# Altium footprint library Control_Board_Model_C201.PcbLib: 124 footprints (part 2 of 8)
Each footprint in its own frame and in the unit in brackets; x right, y up, seen from the top. Pads: shape width x height; smd on the part's side, far side on the other; paste and mask are expansions set on the pad; w line width, h text height; cw(c..) or ccw(c..) is an arc to the next point about the centre after c.
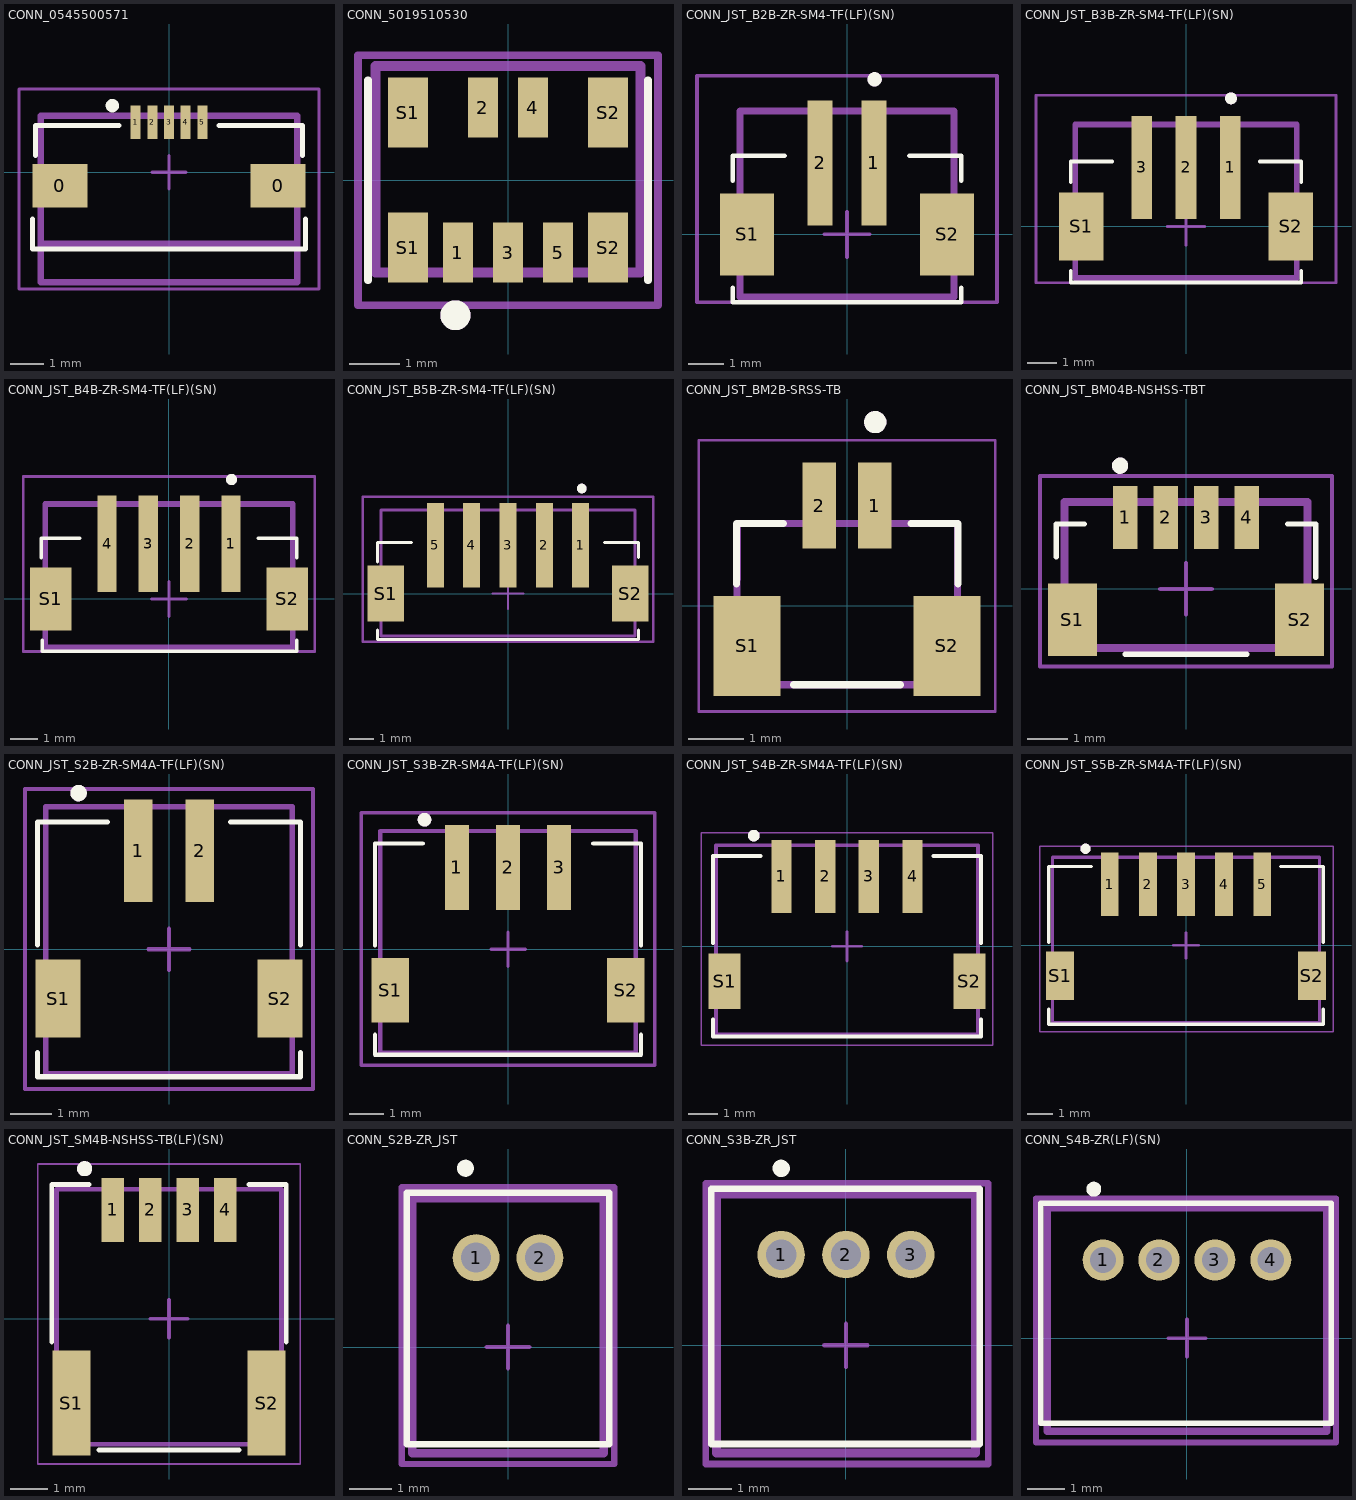
[diagram p1: the footprints below, top view; thin cyan lines are the x and y axes]

## CONN_0545500571 [mm] "5 Position FFC, FPC Connector Contacts, Top 0.020\" (0.50mm) Surface Mount, Right Angle"
height 1.2
pads (7):
  rect 1.65x1.3 smd mask+0.05: 0(-3.275,-0.4) 0(3.275,-0.4)
  rect 0.3x1 smd mask+0.05: 1(-1,1.5) 2(-0.5,1.5) 3(0,1.5) 4(0.5,1.5) 5(1,1.5)
Top Overlay:
  circle w0.2: c-1.7,2 r0.1
  lines w0.152: -4.1,-1.4 -4.1,-2.3 4.1,-2.3 4.1,-1.4 ; -4,0.5 -4,1.4 -1.5,1.4 ; 1.5,1.4 4,1.4 4,0.5
Mechanical 14:
  lines w0.2: -3.85,-2.15 3.85,-2.15 ; -3.85,-3.3 3.85,-3.3 3.85,1.7 -3.85,1.7 -3.85,-3.3
  text "'.Designator'" at -1,-1.5 h0.5
  text "1" at -1.1,0.3 h0.5
  text "5" at 0.9,0.3 h0.5
Mechanical 15:
  lines w0.1: -0.5,0 0.5,0 ; 0,-0.5 0,0.5 ; -4.5,-3.5 -4.5,2.5 4.5,2.5 4.5,-3.5 -4.5,-3.5
3D body "545500571.stp": height 1.2, standoff 0, extent -3.85,-3.3 3.85,1.7

## CONN_5019510530 [mm] "5 Position FFC, FPC Connector Contacts, Vertical - 1 Sided 0.020\" (0.50mm) Surface Mount"
height 4.04
pads (9):
  rect 0.6x1.2 smd mask+0.05: 1(-1,-1.45) 2(-0.5,1.45) 3(0,-1.45) 4(0.5,1.45) 5(1,-1.45)
  rect 0.8x1.4 smd mask+0.05: S1(-2,-1.35) S1(-2,1.35) S2(2,-1.35) S2(2,1.35)
Top Overlay:
  circle w0.3: c-1.05,-2.7 r0.15
  lines w0.152: -2.8,-2 -2.8,2 ; 2.8,-2 2.8,2
Mechanical 14:
  circle w0.3: c-1.05,-2.7 r0.15
  lines w0.2: -2.65,-1.85 2.65,-1.85 2.65,2.284 -2.65,2.284 -2.65,-1.85
  text "'.Designator'" at -1.3,-0.2 h0.5
Mechanical 15:
  lines w0.152: -3,-2.5 3,-2.5 3,2.5 -3,2.5 -3,-2.5
3D body "5019510530.stp": height 4.34, standoff 0, extent -2.65,-1.85 2.65,2.284

## CONN_JST_B2B-ZR-SM4-TF(LF)(SN) [mm] "Connector Header Surface Mount 2 position 0.059\" (1.50mm)"
height 5
pads (4):
  rect 0.7x3.5 smd: 1(0.75,2) 2(-0.75,2)
  rect 1.5x2.3 smd: S1(-2.8,0) S2(2.8,0)
Top Overlay:
  circle w0.2: c0.774,4.34 r0.1
  lines w0.127: -3.2,-1.5 -3.2,-1.9 3.2,-1.9 3.2,-1.5 ; -3.2,1.5 -3.2,2.2 -1.75,2.2 ; 1.75,2.2 3.2,2.2 3.2,1.5
Mechanical 14:
  circle w0.2: c0.774,4.34 r0.1
  lines w0.2: -3,-1.75 -3,3.45 3,3.45 3,-1.75 -3,-1.75
  text "'.Designator'" at -1.766,-0.254 h0.5
Mechanical 15:
  lines w0.1: -0.635,0 0.635,0 ; 0,-0.635 0,0.635 ; -4.2,-1.905 4.2,-1.905 4.2,4.445 -4.2,4.445 -4.2,-1.905
3D body "B2B-ZR-SM4-TF.STEP": height 5, standoff 0, extent -3,-1.75 3,3.45

## CONN_JST_B3B-ZR-SM4-TF(LF)(SN) [mm] "Connector Header Surface Mount 3 position 0.059\" (1.50mm)"
height 5
pads (5):
  rect 0.7x3.5 smd: 1(1.5,2) 2(0,2) 3(-1.5,2)
  rect 1.5x2.3 smd: S1(-3.55,0) S2(3.55,0)
Top Overlay:
  circle w0.2: c1.524,4.34 r0.1
  lines w0.127: -3.9,-1.5 -3.9,-1.9 3.9,-1.9 3.9,-1.5 ; -3.9,1.5 -3.9,2.2 -2.5,2.2 ; 2.5,2.2 3.9,2.2 3.9,1.5
Mechanical 14:
  circle w0.2: c1.524,4.34 r0.1
  lines w0.2: -3.75,-1.75 -3.75,3.45 3.75,3.45 3.75,-1.75 -3.75,-1.75
  text "'.Designator'" at -1.016,-0.254 h0.5
Mechanical 15:
  lines w0.1: -0.635,0 0.635,0 ; 0,-0.635 0,0.635 ; -5.08,-1.905 5.08,-1.905 5.08,4.445 -5.08,4.445 -5.08,-1.905
3D body "B3B-ZR-SM4-TF.STEP": height 5, standoff 0, extent -3.75,-1.75 3.75,3.45

## CONN_JST_B4B-ZR-SM4-TF(LF)(SN) [mm] "Connector Header Surface Mount 4 position 0.059\" (1.50mm)"
height 5
pads (6):
  rect 0.7x3.5 smd: 1(2.25,2) 2(0.75,2) 3(-0.75,2) 4(-2.25,2)
  rect 1.5x2.3 smd: S1(-4.3,0) S2(4.3,0)
Top Overlay:
  circle w0.2: c2.274,4.34 r0.1
  lines w0.127: -4.65,1.5 -4.65,2.2 -3.25,2.2 ; -4.6,-1.5 -4.6,-1.9 4.65,-1.9 4.65,-1.5 ; 3.25,2.2 4.65,2.2 4.65,1.5
Mechanical 14:
  circle w0.2: c2.274,4.34 r0.1
  lines w0.2: -4.5,-1.75 -4.5,3.45 4.5,3.45 4.5,-1.75 -4.5,-1.75
  text "'.Designator'" at -1.125,-0.325 h0.5
Mechanical 15:
  lines w0.1: -0.635,0 0.635,0 ; 0,-0.635 0,0.635 ; -5.3,-1.905 5.3,-1.905 5.3,4.445 -5.3,4.445 -5.3,-1.905
3D body "B4B-ZR-SM4-TF.STEP": height 5, standoff 0, extent -4.5,-1.75 4.5,3.45

## CONN_JST_B5B-ZR-SM4-TF(LF)(SN) [mm]
pads (7):
  rect 0.7x3.5 smd: 1(3,2) 2(1.5,2) 3(0,2) 4(-1.5,2) 5(-3,2)
  rect 1.5x2.3 smd: S1(-5.05,0) S2(5.05,0)
Top Overlay:
  circle w0.2: c3.048,4.34 r0.1
  lines w0.127: -5.4,-1.5 -5.4,-1.9 5.4,-1.9 5.4,-1.5 ; -5.4,1.31 -5.4,2.1 -4,2.1 ; 4,2.1 5.4,2.1 5.4,1.5
Mechanical 14:
  circle w0.2: c3.048,4.34 r0.1
  lines w0.127: -5.25,-1.75 5.25,-1.75 5.25,3.45 -5.25,3.45 -5.25,-1.75
  text "'.Designator'" at -1.6,-0.2 h0.5
Mechanical 15:
  lines w0.1: -0.635,0 0.635,0 ; 0,-0.635 0,0.635 ; -6,-2 -6,4 6,4 6,-2 -6,-2
3D body "B5B-ZR-SM4-TF.STEP": height 5, standoff 0, extent -5.25,-1.75 5.25,3.45

## CONN_JST_BM2B-SRSS-TB [mm]
pads (4):
  rect 0.6x1.55 smd: 1(0.5,1.8) 2(-0.5,1.8)
  rect 1.2x1.8 smd: S1(-1.8,-0.725) S2(1.8,-0.725)
Top Overlay:
  circle w0.2: c0.508,3.302 r0.1
  lines w0.127: -1.99,0.386 -1.99,1.105 -1.99,1.475 -1.143,1.475 ; -0.96,-1.425 0.965,-1.425 ; 1.15,1.475 1.997,1.475 1.997,0.393
Mechanical 13:
  circle w0.2: c0.508,3.302 r0.1
  lines w0.127: -1.977,-1.372 -1.977,1.141 ; -1.969,0.468 -1.969,1.475 1.989,1.475 1.989,-1.425 -1.905,-1.425
Mechanical 15:
  lines w0.05: 0.976,2.974 2.667,2.974 2.667,-1.905 -2.667,-1.905 -2.667,2.974 2.5,2.974
3D body "BM02B-SRSS-TB.STEP": height 4.25, standoff -0.07, extent -2,-1.425 2,2.175

## CONN_JST_BM04B-NSHSS-TBT [mm] "Connector Header Surface Mount 4 position 0.039\" (1.00mm)"
height 4.25
pads (6):
  rect 0.6x1.55 smd: 1(-1.5,1.762) 2(-0.5,1.762) 3(0.5,1.762) 4(1.5,1.762)
  rect 1.2x1.8 smd: S1(-2.8,-0.763) S2(2.8,-0.763)
Top Overlay:
  circle w0.2: c-1.625,3.037 r0.1
  lines w0.127: -3.2,0.787 -3.2,1.6 -2.5,1.6 ; -1.5,-1.613 1.5,-1.613 ; 2.5,1.6 3.2,1.6 3.2,0.279
Mechanical 14:
  circle w0.2: c-1.625,3.037 r0.1
  lines w0.2: -3,-1.463 3,-1.463 3,2.137 -3,2.137 -3,-1.463
Mechanical 15:
  lines w0.1: -0.635,0 0.635,0 ; 0,-0.635 0,0.635 ; -3.6,-1.913 3.6,-1.913 3.6,2.788 -3.6,2.788 -3.6,-1.913
3D body "BM04B-SRSS-TB.STEP": height 4.25, standoff -0.07, extent -3,-1.463 3,2.137

## CONN_JST_S2B-ZR-SM4A-TF(LF)(SN) [mm] "Connector Header Surface Mount, Right Angle 2 position 0.059\" (1.50mm)"
height 3.7
pads (4):
  rect 0.7x2.5 smd: 1(-0.75,2.4) 2(0.75,2.4)
  rect 1.1x1.9 smd: S1(-2.7,-1.2) S2(2.7,-1.2)
Top Overlay:
  circle w0.2: c-2.2,3.8 r0.1
  lines w0.127: -3.2,-2.51 -3.2,-3.1 3.2,-3.1 3.2,-2.51 ; -3.2,0.11 -3.2,3.1 -1.5,3.1 ; 1.5,3.1 3.2,3.1 3.2,0.11
Mechanical 14:
  circle w0.2: c-2.2,3.8 r0.1
  lines w0.127: -3,-3.031 3,-3.031 3,3.469 -3,3.469 -3,-3.031
  text "'.Designator'" at -1.5,0 h0.5
Mechanical 15:
  lines w0.1: -0.5,0 0.5,0 ; 0,-0.5 0,0.5 ; -3.5,-3.4 3.5,-3.4 3.5,3.9 -3.5,3.9 -3.5,-3.4
3D body "S2B-ZR-SM4A-TF.STEP": height 3.7, standoff 0, extent -3,-3.031 3,3.469

## CONN_JST_S3B-ZR-SM4A-TF(LF)(SN) [mm]
pads (5):
  rect 0.7x2.5 smd: 1(-1.5,2.4) 2(0,2.4) 3(1.5,2.4)
  rect 1.1x1.9 smd: S1(-3.45,-1.2) S2(3.45,-1.2)
Top Overlay:
  circle w0.2: c-2.45,3.8 r0.1
  lines w0.127: -3.9,-2.51 -3.9,-3.1 3.9,-3.1 3.9,-2.51 ; -3.9,0.11 -3.9,3.1 -2.5,3.1 ; 2.5,3.1 3.9,3.1 3.9,0.11
Mechanical 14:
  circle w0.2: c-2.45,3.8 r0.1
  lines w0.127: -3.75,-3.031 -3.75,3.469 3.75,3.469 3.75,-3.031 -3.75,-3.031
  text "'.Designator'" at -1.4,-0.2 h0.5
Mechanical 15:
  lines w0.1: -0.5,0 0.5,0 ; 0,-0.5 0,0.5 ; -4.3,-3.4 -4.3,4 4.3,4 4.3,-3.4 -4.3,-3.4
3D body "S3B-ZR-SM4A-TF.STEP": height 3.7, standoff 0, extent -3.75,-3.031 3.75,3.469

## CONN_JST_S4B-ZR-SM4A-TF(LF)(SN) [mm]
pads (6):
  rect 0.7x2.5 smd: 1(-2.25,2.4) 2(-0.75,2.4) 3(0.75,2.4) 4(2.25,2.4)
  rect 1.1x1.9 smd: S1(-4.2,-1.2) S2(4.2,-1.2)
Top Overlay:
  circle w0.2: c-3.2,3.8 r0.1
  lines w0.127: -4.6,-2.51 -4.6,-3.1 4.6,-3.1 4.6,-2.51 ; -4.6,0.11 -4.6,3.1 -2.97,3.1 ; 2.97,3.1 4.6,3.1 4.6,0.11
Mechanical 14:
  circle w0.2: c-3.2,3.8 r0.1
  lines w0.127: -4.5,-3.031 -4.5,3.469 4.5,3.469 4.5,-3.031 -4.5,-3.031
  text "'.Designator'" at -1.5,0 h0.5
Mechanical 15:
  lines w0.05: -5,-3.4 -5,3.9 5,3.9 5,-3.4 -5,-3.4
  lines w0.1: -0.5,0 0.5,0 ; 0,-0.5 0,0.5
3D body "S4B-ZR-SM4A-TF.STEP": height 3.7, standoff 0, extent -4.5,-3.031 4.5,3.469

## CONN_JST_S5B-ZR-SM4A-TF(LF)(SN) [mm]
pads (7):
  rect 0.7x2.5 smd: 1(-3,2.4) 2(-1.5,2.4) 3(0,2.4) 4(1.5,2.4) 5(3,2.4)
  rect 1.1x1.9 smd: S1(-4.95,-1.2) S2(4.95,-1.2)
Top Overlay:
  circle w0.2: c-3.95,3.8 r0.1
  lines w0.127: -5.4,-2.51 -5.4,-3.1 5.4,-3.1 5.4,-2.51 ; -5.4,0.11 -5.4,3.1 -3.72,3.1 ; 3.72,3.1 5.4,3.1 5.4,0.11
Mechanical 14:
  circle w0.2: c-3.95,3.8 r0.1
  lines w0.127: -5.25,-3.031 -5.25,3.469 5.25,3.469 5.25,-3.031 -5.25,-3.031
  text "'.Designator'" at -2.25,0 h0.5
Mechanical 15:
  lines w0.05: -5.75,-3.4 -5.75,3.9 5.8,3.9 5.8,-3.4 -5.75,-3.4
  lines w0.1: -0.5,0 0.5,0 ; 0,-0.5 0,0.5
3D body "S5B-ZR-SM4A-TF.STEP": height 3.7, standoff 0, extent -5.25,-3.031 5.25,3.469

## CONN_JST_SM4B-NSHSS-TB(LF)(SN) [mm] "Connector Header Surface Mount, Right Angle 4 position 0.039\" (1.00mm)"
height 4.5
pads (6):
  rect 0.6x1.7 smd: 1(-1.5,2.9) 2(-0.5,2.9) 3(0.5,2.9) 4(1.5,2.9)
  rect 1x2.8 smd: S1(-2.6,-2.25) S2(2.6,-2.25)
Top Overlay:
  circle w0.2: c-2.25,4 r0.1
  lines w0.127: -3.125,-0.625 -3.125,3.575 -2.125,3.575 ; -1.875,-3.5 1.875,-3.5 ; 2.125,3.575 3.125,3.575 3.125,-0.625
Mechanical 14:
  circle w0.2: c-2.25,4 r0.1
  lines w0.127: -3,-3.35 -3,3.45 3,3.45 3,-3.35 -3,-3.35
  text "'.Designator'" at -1.5,0.5 h0.5
Mechanical 15:
  lines w0.05: -3.5,-3.875 -3.5,4.125 3.5,4.125 3.5,-3.875 -3.5,-3.875
  lines w0.1: -0.5,0 0.5,0 ; 0,-0.5 0,0.5
3D body "SM04B-NSHSS-TB.STEP": height 4.5, standoff 0, extent -3,-3.35 3,3.45

## CONN_S2B-ZR_JST [mm] "Connector Header Through Hole, Right Angle 2 position 0.059\" (1.50mm)"
height 3.7
pads (2):
  round 1.1 hole 0.7: 1(-0.75,2.1) 2(0.75,2.1)
Top Overlay:
  circle w0.2: c-1,4.2 r0.1
  lines w0.152: -2.375,-2.286 2.375,-2.286 2.375,3.627 -2.375,3.627 -2.375,-2.286
Mechanical 14:
  lines w0.2: -2.248,-2.494 2.248,-2.494 2.248,3.5 -2.248,3.5 -2.248,-2.494
  text "'.Designator'" at -0.8,-0.2 h0.5
  text "1" at -0.9,1.6 h1.02
  text "2" at 0.5,1.6 h1.02
Mechanical 15:
  lines w0.1: -0.5,0 0.5,0 ; 0,-0.5 0,0.5
  lines w0.152: -2.502,-2.748 -2.502,3.754 2.502,3.754 2.502,-2.748 -2.502,-2.748
3D body "S2B-ZR.STEP": height 3.8, standoff -2.6, extent -2.25,-2.495 2.25,3.505

## CONN_S3B-ZR_JST [mm] "Connector Header Through Hole, Right Angle 3 position 0.059\" (1.50mm)"
height 3.7
pads (3):
  round 1.1 hole 0.7: 1(-1.5,2.1) 2(0,2.1) 3(1.5,2.1)
Top Overlay:
  circle w0.2: c-1.5,4.1 r0.1
  lines w0.152: -3.125,-2.286 3.1,-2.286 3.1,3.627 -3.125,3.627 -3.125,-2.286
Mechanical 14:
  lines w0.2: -2.998,-2.494 3,-2.494 3,3.5 -2.998,3.5 -2.998,-2.494
  text "'.Designator'" at -0.7,-0.3 h0.5
  text "3" at 1.2,1.5 h1.02
  text "2" at -0.3,1.5 h1.02
  text "1" at -1.5,1.5 h1.02
Mechanical 15:
  lines w0.1: -0.5,0 0.5,0 ; 0,-0.5 0,0.5
  lines w0.152: -3.252,-2.748 -3.252,3.754 3.3,3.754 3.3,-2.748 -3.252,-2.748
3D body "S3B-ZR.STEP": height 3.8, standoff -2.6, extent -3,-2.494 3,3.506

## CONN_S4B-ZR(LF)(SN) [mm] "CONN HEADER R/A 4POS 1.5MM"
height 3.7
pads (4):
  round 1.1 hole 0.7: 1(-2.25,2.1) 2(-0.75,2.1) 3(0.75,2.1) 4(2.25,2.1)
Top Overlay:
  circle w0.2: c-2.5,4 r0.1
  lines w0.152: -3.924,-2.286 3.874,-2.286 3.874,3.627 -3.924,3.627 -3.924,-2.286
Mechanical 14:
  lines w0.2: -3.75,-2.5 3.75,-2.5 3.75,3.5 -3.75,3.5 -3.75,-2.5
  text "'.Designator'" at -0.9,-0.3 h0.5
  text "1" at -2.4,1.5 h1.02
  text "2" at -1,1.5 h1.02
  text "3" at 0.4,1.5 h1.02
  text "4" at 1.8,1.5 h1.02
Mechanical 15:
  lines w0.1: -0.5,0 0.5,0 ; 0,-0.5 0,0.5
  lines w0.152: -4.051,-2.799 -4.051,3.754 4.001,3.754 4.001,-2.799 -4.051,-2.799
3D body "S4B-ZR.STEP": height 3.8, standoff -2.6, extent -3.75,-2.5 3.75,3.5